# EAGLE library part USB1135-15-9-L-B (library USB1135-15-9-L-B)
USB Connectors USB A 3.0 Skt RA High Life 15u" T Hole W/Shell Stake Tray Source: Datasheet <https://gct.co/Files/Drawings/USB1135.pdf?v=73f322be-c8cb-44ef-b4e4-cf79b818febb>
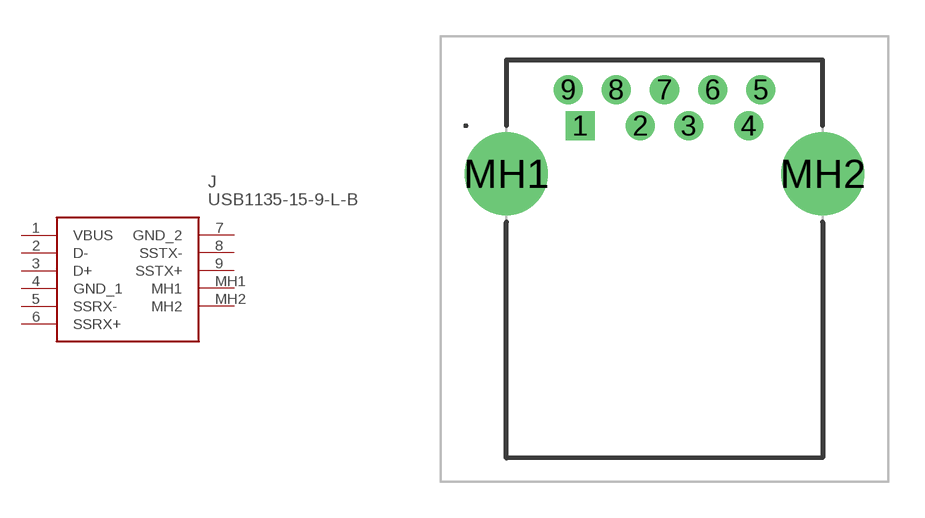
[diagram p0: symbol with the pads of USB1135159LB; footprint USB1135159LB]

Designator prefix J

## USB1135-15-9-L-B (Description: USB Connectors USB A 3.0 Skt RA High Life 15u" T Hole W/Shell Stake Tray; Height: 7.2mm; Manufacturer_Name: GCT (GLOBAL CONNECTOR TECHNOLOGY); Manufacturer_Part_Number: USB1135-15-9-L-B; Mouser_Part_Number: 640-USB1135-15-9-L-B; Mouser_Price-Stock: https://www.mouser.co.uk/ProductDetail/GCT/USB1135-15-9-L-B?qs=KUoIvG%2F9IlaGvSU06AX2Fg%3D%3D)  [USB1135159LB]
1  VBUS
2  D-
3  D+
4  GND_1
5  SSRX-
6  SSRX+
7  GND_2
8  SSTX-
9  SSTX+
MH1  MH1
MH2  MH2

## Footprint USB1135159LB (pad centres in mm)
USB1135-15-9-L-B-3
drill 0.7 pad 1.2 square: 1 0,0
drill 0.7 pad 1.2: 2 2.5,0; 3 4.5,0; 4 7,0; 5 7.5,1.5; 6 5.5,1.5; 7 3.5,1.5; 8 1.5,1.5; 9 -0.5,1.5
drill 2.3 pad 3.45: MH1 -3.07,-2; MH2 10.07,-2